# EAGLE library part 62200821821 (library Board_to_Board_Connectors_rev15d)
WR-PHD 1.27mm Dual Socket Header, 8 Pins=>Code : Con_BTB_SHD_1.27_2_62200821821 <http://katalog.we-online.de/media/thumbs2/eican/thb_Con_BTB_SHD_1.27_2_6220xx21821_pf2.jpg> Details see: http://katalog.we-online.de/en/em/622_0xx_218_21 Created 2014-06-04, Karrer Zheng 2014 (C) Würth Elektronik
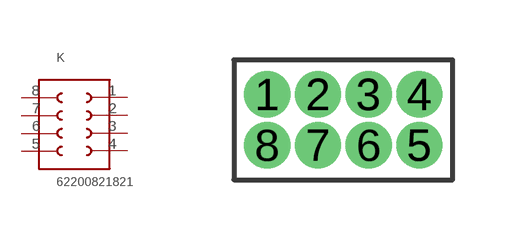
[diagram p301: symbol with the pads of 62200821821; footprint 62200821821]

Designator prefix K

## 62200821821  [62200821821]
1  1  pas
2  2  pas
3  3  pas
4  4  pas
5  5  pas
6  6  pas
7  7  pas
8  8  pas

## Footprint 62200821821 (pad centres in mm)
WR-PHD 1.27mm Dual Socket Header, 8 Pins
drill 0.65: 1 -1.905,0.635; 2 -0.635,0.635; 3 0.635,0.635; 4 1.905,0.635; 5 1.905,-0.635; 6 0.635,-0.635; 7 -0.635,-0.635; 8 -1.905,-0.635